# EAGLE library part MCP23S08 (library Custom)
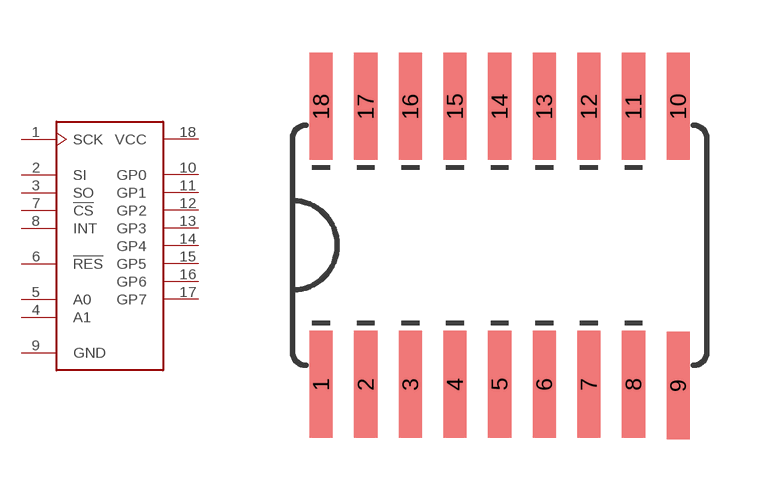
[diagram p24: symbol with the pads of SO18W; footprint SO18W]

Designator prefix -

## MCP23S08  [SO18W]
1  SCK  in
2  SI
3  SO
4  A1
5  A0
6  !RES
7  !CS
8  INT
9  GND
10  GP0
11  GP1
12  GP2
13  GP3
14  GP4
15  GP5
16  GP6
17  GP7
18  VCC

## Footprint SO18W (pad centres in mm)
smd 0.66 x 3.048: 1 -5.08,-3.95; 2 -3.81,-3.95; 3 -2.54,-3.95; 4 -1.27,-3.95; 5 0,-3.95; 6 1.27,-3.95; 7 2.54,-3.95; 8 3.81,-3.95; 9 5.08,-3.988; 10 5.08,3.95; 11 3.81,3.95; 12 2.54,3.95; 13 1.27,3.95; 14 0,3.95; 15 -1.27,3.95; 16 -2.54,3.95; 17 -3.81,3.95; 18 -5.08,3.95